# Altium footprint library OSP_Footprints.PcbLib: 50 footprints (part 3 of 4)
Each footprint in its own frame and in the unit in brackets; x right, y up, seen from the top. Pads: shape width x height; smd on the part's side, far side on the other; paste and mask are expansions set on the pad; w line width, h text height; cw(c..) or ccw(c..) is an arc to the next point about the centre after c.
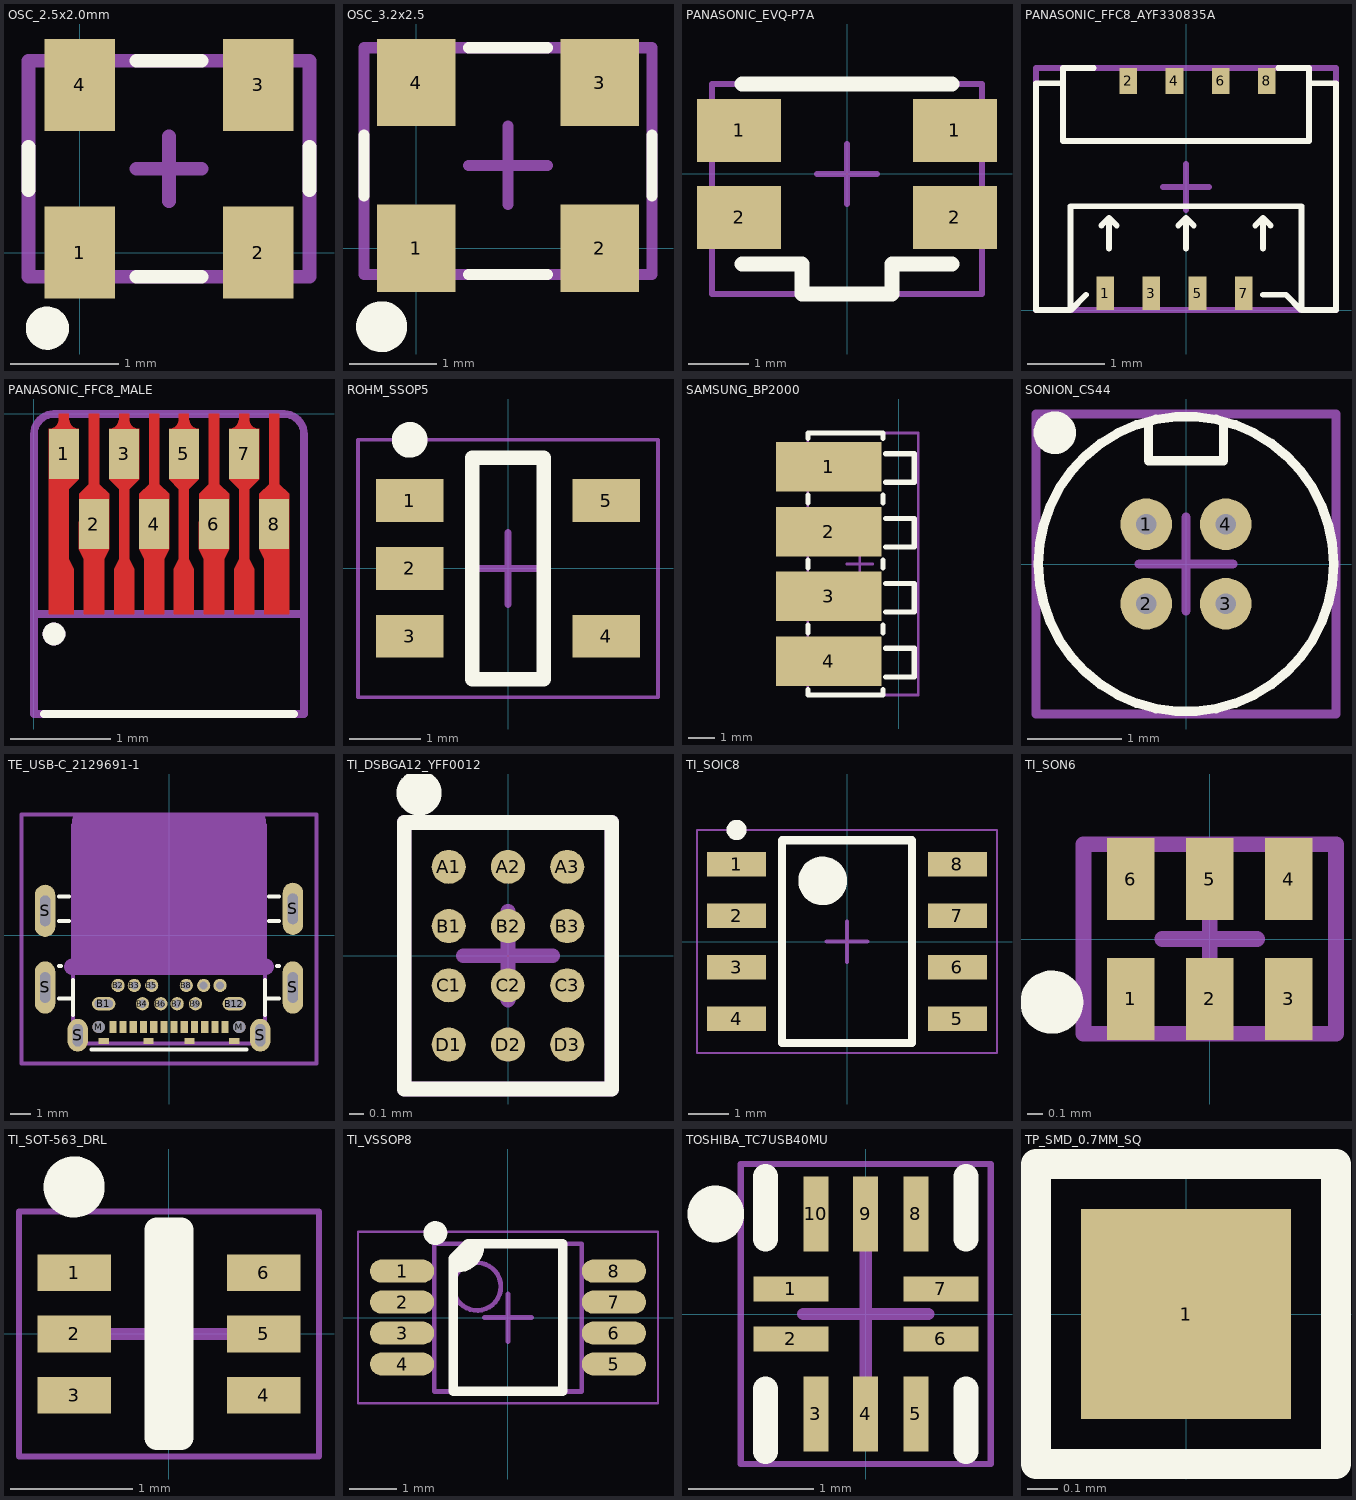
[diagram p2: the footprints below, top view; thin cyan lines are the x and y axes]

## OSC_2.5x2.0mm [mm] "SMD MEMS oscillator, 2.5x2.0 mm"
height 0.85
pads (4):
  rect 0.65x0.85 smd: 1(0,0) 2(1.65,0) 3(1.65,1.55) 4(0,1.55)
Top Overlay:
  circle w0.2: c-0.3,-0.7 r0.1
  lines w0.127: -0.475,0.575 -0.475,0.975 ; 0.525,-0.225 1.125,-0.225 ; 0.525,1.775 1.125,1.775 ; 2.125,0.575 2.125,0.975
Mechanical 15:
  lines w0.127: 0.525,0.775 1.125,0.775 ; 0.825,0.475 0.825,1.075 ; -0.475,-0.225 2.125,-0.225 2.125,1.775 -0.475,1.775 -0.475,-0.225
3D body: height 0.1, standoff 0, extent 1.325,-0.25 1.975,0.425
3D body: height 0.1, standoff 0, extent -0.325,-0.25 0.325,0.425
3D body: height 0.1, standoff 0, extent 1.325,1.125 1.975,1.8
3D body: height 0.1, standoff 0, extent -0.325,1.125 0.325,1.8
3D body: height 0.85, standoff 0.05, extent -0.475,-0.225 2.125,1.775
3D body: height 0.86, standoff 0.85, extent -0.298,0 0.1,0.4

## OSC_3.2x2.5 [mm] "MEMS oscillator, 3.2x2.5 mm"
height 0.85
pads (4):
  rect 0.9x1 smd: 1(0,0) 2(2.1,0) 3(2.1,1.9) 4(0,1.9)
Top Overlay:
  circle w0.3: c-0.4,-0.9 r0.141
  lines w0.127: -0.6,0.6 -0.6,1.3 ; 0.6,-0.3 1.5,-0.3 ; 0.6,2.3 1.5,2.3 ; 2.7,0.6 2.7,1.3
Mechanical 15:
  lines w0.127: 0.6,0.95 1.5,0.95 ; 1.05,0.5 1.05,1.4 ; -0.6,-0.3 -0.6,2.3 2.7,2.3 2.7,-0.3 -0.6,-0.3
3D body: height 0.85, standoff 0.05, extent -0.6,-0.3 2.7,2.3

## PANASONIC_EVQ-P7A [mm] "EVQ-P7A01P Tact Switch SMT Right Angle"
height 1.35
pads (4):
  rect 1.4x1.05 smd mask+0.05: 1(-1.8,0.725) 1(1.8,0.725) 2(-1.8,-0.725) 2(1.8,-0.725)
Top Overlay:
  lines w0.254: -1.75,-1.5 -0.75,-1.5 -0.75,-2 0.75,-2 0.75,-1.5 1.75,-1.5 ; -1.75,1.5 1.75,1.5
Mechanical 15:
  lines w0.1: -0.5,0 0.5,0 ; 0,-0.5 0,0.5 ; -2.25,-2 -2.25,1.5 2.25,1.5 2.25,-2 -2.25,-2
3D body: height 0.2, standoff 0, extent -2.25,0.4 2.25,1.1
3D body: height 0.2, standoff 0, extent -2.25,-1.1 2.25,-0.4
3D body: height 1.35, standoff 0.1, extent -1.75,-1.5 1.75,1.5
3D body: height 1.1, standoff 0.3, extent -0.75,-2 0.75,-1.25

## PANASONIC_FFC8_AYF330835A [mm] "Panasonic AYF330835A 8-pin FFC connector"
height 0.9
pads (8):
  rect 0.23x0.44 smd mask+0.05: 1(-1.05,0.22) 3(-0.45,0.22) 5(0.15,0.22) 7(0.75,0.22)
  rect 0.23x0.34 smd mask+0.05: 2(-0.75,2.98) 4(-0.15,2.98) 6(0.45,2.98) 8(1.05,2.98)
Top Overlay:
  lines w0.076: -1.6,2.95 -1.95,2.95 -1.95,0 -1.5,0 ; -1.3,0.2 -1.5,0 ; -1.2,3.15 -1.6,3.15 -1.6,2.2 1.6,2.2 1.6,3.15 1.2,3.15 ; -1.1,1.1 -1,1.2 ; -1,0.8 -1,1.2 ; -0.9,1.1 -1,1.2 ; -0.1,1.1 0,1.2 ; 0,0.8 0,1.2 ; 0.1,1.1 0,1.2 ; 0.9,1.1 1,1.2 ; 1,0.2 1.3,0.2 1.5,0 ; 1,0.8 1,1.2 ; 1.1,1.1 1,1.2 ; 1.6,2.95 1.95,2.95 1.95,0 1.5,0 ; -1.5,0 -1.5,1.35 1.5,1.35 1.5,0
Mechanical 15:
  lines w0.076: -0.3,1.6 0.3,1.6 ; 0,1.3 0,1.9 ; -1.95,0 1.95,0 1.95,3.15 -1.95,3.15 -1.95,0
3D body: height 0.92, standoff 0, extent -1.8,1.35 1.8,1.4
3D body: height 0.9, standoff 0, extent -1.95,0 1.95,2.95
3D body: height 0.91, standoff 0.4, extent -1.6,2.2 1.6,3.15

## PANASONIC_FFC8_MALE [mm] "Mating FFC edge to AYF330835A"
pads (8):
  rect 0.3x0.5 smd paste-1000 mask-1000: 1(0.3,-0.4) 2(0.6,-1.1) 3(0.9,-0.4) 4(1.2,-1.1) 5(1.5,-0.4) 6(1.8,-1.1) 7(2.1,-0.4) 8(2.4,-1.1)
Top Layer:
  region: 0.85,0 0.85,-0.05 0.848,-0.07 0.833,-0.106 0.806,-0.133 0.77,-0.148 0.75,-0.15 0.75,-0.65 0.85,-0.75 0.85,-1.45 0.8,-1.55 0.8,-2 1,-2 1,-1.55 0.95,-1.45 0.95,-0.75 1.05,-0.65 1.05,-0.15 1.03,-0.148 0.994,-0.133 0.967,-0.106 0.952,-0.07 0.95,-0.05 0.95,0
  region: 0.25,0 0.25,-0.05 0.248,-0.07 0.233,-0.106 0.206,-0.133 0.17,-0.148 0.15,-0.15 0.15,-2 0.4,-2 0.4,-1.55 0.35,-1.45 0.35,-0.75 0.45,-0.65 0.45,-0.15 0.43,-0.148 0.394,-0.133 0.367,-0.106 0.352,-0.07 0.35,-0.05 0.35,0
  region: 0.55,0 0.55,-0.7 0.45,-0.8 0.45,-1.35 0.5,-1.45 0.5,-2 0.7,-2 0.7,-1.45 0.75,-1.35 0.75,-0.8 0.65,-0.7 0.65,0
  region: 1.15,0 1.15,-0.7 1.05,-0.8 1.05,-1.35 1.1,-1.45 1.1,-2 1.3,-2 1.3,-1.45 1.35,-1.35 1.35,-0.8 1.25,-0.7 1.25,0
  region: 1.75,0 1.75,-0.7 1.65,-0.8 1.65,-1.35 1.7,-1.45 1.7,-2 1.9,-2 1.9,-1.45 1.95,-1.35 1.95,-0.8 1.85,-0.7 1.85,0
  region: 1.45,0 1.45,-0.05 1.448,-0.07 1.433,-0.106 1.406,-0.133 1.37,-0.148 1.35,-0.15 1.35,-0.65 1.45,-0.75 1.45,-1.45 1.4,-1.55 1.4,-2 1.6,-2 1.6,-1.55 1.55,-1.45 1.55,-0.75 1.65,-0.65 1.65,-0.15 1.63,-0.148 1.594,-0.133 1.567,-0.106 1.552,-0.07 1.55,-0.05 1.55,0
  region: 2.35,0 2.35,-0.7 2.25,-0.8 2.25,-1.35 2.3,-1.45 2.3,-2 2.55,-2 2.55,-0.8 2.45,-0.7 2.45,0
  region: 2.05,0 2.05,-0.05 2.048,-0.07 2.033,-0.106 2.006,-0.133 1.97,-0.148 1.95,-0.15 1.95,-0.65 2.05,-0.75 2.05,-1.45 2,-1.55 2,-2 2.2,-2 2.2,-1.55 2.15,-1.45 2.15,-0.75 2.25,-0.65 2.25,-0.15 2.23,-0.148 2.194,-0.133 2.167,-0.106 2.152,-0.07 2.15,-0.05 2.15,0
Top Overlay:
  circle w0.127: c0.2,-2.2 r0.05
  lines w0.076: 0.1,-3 2.6,-3
Top Solder:
  rectangle: 0,-2 2.7,0
Mechanical 15:
  circle w0.127: c0.2,-2.2 r0.05
  lines w0.076: 0,-2 0,-3 2.7,-3 2.7,-2 ; 0,-2 2.7,-2 ; 0,-2 0,-0.2 cw(c0.2,-0.2) 0.2,0 2.5,0 cw(c2.5,-0.2) 2.7,-0.2 2.7,-2
3D body: height -0.1, standoff -0.2, extent 0,-3 2.7,0

## ROHM_SSOP5 [mm] "ROHM SSOP5 from BUxxSD5 series datasheet"
height 1.25
pads (5):
  rect 0.95x0.6 smd: 1(-1.375,0.95) 2(-1.375,0) 3(-1.375,-0.95) 4(1.375,-0.95) 5(1.375,0.95)
Top Overlay:
  circle w0.25: c-1.375,1.8 r0.125
  lines w0.2: -0.5,-1.55 -0.5,1.55 0.5,1.55 0.5,-1.55 -0.5,-1.55
Mechanical 15:
  lines w0.05: -2.1,-1.8 2.1,-1.8 2.1,1.8 -2.1,1.8 -2.1,-1.8
  lines w0.1: -0.5,0 0.5,0 ; 0,-0.5 0,0.5
3D body "ROHM_SSOP5_2.step": height 1.25, standoff 0, extent -1.5,-1.55 1.5,1.55

## SAMSUNG_BP2000 [mm] "Samsung BP2000 2000mAh battery for Galaxy Camera 2, connector AVX 9155-004-201-006"
height 7
pads (4):
  rect 4.064x1.905 smd: 1(-2.7,-8) 2(-2.7,-10.5) 3(-2.7,-13) 4(-2.7,-15.5)
Top Overlay:
  lines w0.2: -3.5,-16.6 -3.5,-16.8 -0.6,-16.8 -0.6,-16.6 ; -3.5,-14.4 -3.5,-14.1 ; -3.5,-11.9 -3.5,-11.6 ; -3.5,-9.4 -3.5,-9.1 ; -3.5,-6.9 -3.5,-6.7 -0.6,-6.7 -0.6,-6.9 ; -0.6,-14.4 -0.6,-14.1 ; -0.6,-11.9 -0.6,-11.6 ; -0.6,-9.4 -0.6,-9.1 ; -0.5,-16.1 0.6,-16.1 0.6,-15 -0.5,-15 ; -0.5,-13.6 0.6,-13.6 0.6,-12.5 -0.5,-12.5 ; -0.5,-11.1 0.6,-11.1 0.6,-10 -0.5,-10 ; -0.5,-8.6 0.6,-8.6 0.6,-7.5 -0.5,-7.5
Mechanical 15:
  lines w0.1: -2,-11.75 -1,-11.75 ; -1.5,-12.25 -1.5,-11.25 ; -3.5,-16.8 -3.5,-6.7 0.75,-6.7 0.75,-16.8 -3.5,-16.8
3D body "AVX Interconnect-00-9155-004-201-006.STEP": height 5.38, standoff -0.02, extent -3.249,-16.8 0.7,-6.8
3D body "SAMSUNG BP2000.STEP": height 8.97, standoff 2.46, extent 0,-46.3 59,0

## SONION_CS44 [mm]
height 2.2
pads (4):
  round 0.55 hole 0.22: 1(-0.424,0.424) 2(-0.424,-0.424) 3(0.424,-0.424) 4(0.424,0.424)
Top Overlay:
  circle w0.1: c0,0 r1.575
  circle w0.254: c-1.4,1.4 r0.1
  lines w0.1: -0.4,1.5 -0.4,1.1 0.4,1.1 0.4,1.5
Mechanical 15:
  lines w0.1: -0.5,0 0.5,0 ; 0,-0.5 0,0.5 ; -1.6,-1.6 -1.6,1.6 1.6,1.6 1.6,-1.6 -1.6,-1.6
3D body: height 2.2, standoff 0, extent -1.563,-1.572 1.575,1.572

## TE_USB-C_2129691-1 [mm] "USB-C Hybrid In-Board Mount"
height 2.27
pads (36):
  rect 0.35x0.6 smd: A1(2.75,-4.5) A2(2.25,-4.5) A3(1.75,-4.5) A4(1.25,-4.5) A5(0.75,-4.5) A6(0.25,-4.5) A7(-0.25,-4.5) A8(-0.75,-4.5) A9(-1.25,-4.5) A10(-1.75,-4.5) A11(-2.25,-4.5) A12(-2.75,-4.5)
  oval 1.15x0.65 hole 0.4 slot 0.9 at 0 deg: B1(-3.2,-3.36) B12(3.2,-3.36)
  round 0.65 hole 0.4: B2(-2.5,-2.46) B3(-1.7,-2.46) B4(-1.3,-3.36) B5(-0.85,-2.46) B6(-0.4,-3.36) B7(0.4,-3.36) B8(0.85,-2.46) B9(1.3,-3.36) B10(1.7,-2.46) B11(2.5,-2.46)
  round 0.6 hole 0.6 unplated mask+0.102: M(-3.45,-4.5) M(3.45,-4.5)
  oval 1x2.56 hole 0.5 slot 1.5 at 90 deg: S(-6.075,-2.56) S(-6.075,1.2) S(6.075,-2.56) S(6.075,1.3)
  oval 1x1.6 hole 0.5 slot 1.1 at 90 deg: S(-4.475,-4.9) S(4.475,-4.9)
  rect 0.5x0.3 smd: S(-3.2,-5.19) S(-1,-5.19) S(1,-5.19) S(3.2,-5.19)
Top Overlay:
  lines w0.2: -5.4,-3.1 -4.7,-3.1 ; -5.4,-1.5 -5.3,-1.5 ; -5.4,0.7 -4.9,0.7 ; -5.4,1.9 -4.9,1.9 ; -4.7,-3.9 -4.7,-2.2 ; -3.8,-5.6 0,-5.6 3.8,-5.6 ; 4.7,-3.9 4.7,-2.2 ; 4.7,-3.1 5.4,-3.1 ; 4.9,0.7 5.4,0.7 ; 4.9,1.9 5.4,1.9 ; 5.3,-1.5 5.4,-1.5
Top Solder:
  rectangle: -1.2,-3.7 1.2,-3
  rectangle: 1,-2.8 2.3,-2.1
  rectangle: -2.3,-2.8 -1,-2.1
  rectangle: 2.8,-5 4.2,-4.1
  rectangle: 0.625,-5 1.375,-4.8
  rectangle: -1.375,-5 -0.625,-4.8
  rectangle: -4.2,-5 -2.8,-4.1
Bottom Solder:
  rectangle: 1,-2.8 2.3,-2.1
  rectangle: -1.1,-3.7 1.1,-3
  rectangle: -2.3,-2.8 -1,-2.1
  rectangle: -4.2,-4.9 -3.5,-4.1
  rectangle: 3.5,-4.9 4.2,-4.1
Mechanical 1:
  lines w0.2: -4.7,-5.3 0,-5.3 4.7,-5.3 4.7,5.4 0,5.4 -4.7,5.4 -4.7,-5.3
Mechanical 15:
  lines w0.2: -0.635,0 0.635,0 ; 0,-0.635 0,0.635 ; -7.239,-6.278 0,-6.278 7.239,-6.278 7.239,5.914 0,5.914 -7.239,5.914 -7.239,-6.278
Mechanical 31:
  region: 4.35,5.61 -4.35,5.61 -4.35,-1.54 4.35,-1.54
  lines w0.8: -4.75,-1.54 4.75,-1.54 ; -4.35,-1.54 -4.35,5.61 0,5.61 4.35,5.61 4.35,-1.54
3D body "TE USB 2129691-1.STEP": height 2.27, standoff -1.07, extent -6.175,-5.3 6.175,5.4

## TI_DSBGA12_YFF0012 [mm] "TI 12-pin BGA YFF0012 from TPD4S214"
height 0.625
pads (12):
  round 0.23 smd mask+0.102: A1(-0.4,0.6) A2(0,0.6) A3(0.4,0.6) B1(-0.4,0.2) B2(0,0.2) B3(0.4,0.2) C1(-0.4,-0.2) C2(0,-0.2) C3(0.4,-0.2) D1(-0.4,-0.6) D2(0,-0.6) D3(0.4,-0.6)
Top Overlay:
  circle w0.254: c-0.6,1.1 r0.025
  lines w0.1: -0.7,-0.9 -0.7,0.9 0.7,0.9 0.7,-0.9 -0.7,-0.9
Top Solder:
  rectangle: -0.4,-0.6 0.4,0.6
Mechanical 15:
  lines w0.1: -0.3,0 0.3,0 ; 0,-0.3 0,0.3 ; -0.7,-0.9 0.7,-0.9 0.7,0.9 -0.7,0.9 -0.7,-0.9
3D body: height 0.63, standoff 0.15, extent -0.7,-0.9 0.7,0.9

## TI_SOIC8 [mm] "SOIC, 8-Leads, Body 4.90x3.90mm, Pitch 1.27mm, IPC Medium Density"
height 1.75
pads (8):
  rect 1.45x0.6 smd: 1(-2.725,1.905) 2(-2.725,0.635) 3(-2.725,-0.635) 4(-2.725,-1.905) 5(2.725,-1.905) 6(2.725,-0.635) 7(2.725,0.635) 8(2.725,1.905)
Top Overlay:
  circle w0.6: c-0.6,1.5 r0.3
  circle w0.25: c-2.725,2.755 r0.125
  lines w0.2: -1.6,-2.5 1.6,-2.5 1.6,2.5 -1.6,2.5 -1.6,-2.5
Mechanical 15:
  lines w0.05: -3.7,-2.75 3.7,-2.75 3.7,2.75 -3.7,2.75 -3.7,-2.75
  lines w0.1: -0.5,0 0.5,0 ; 0,-0.5 0,0.5
3D body "TI_SOIC8.step": height 1.75, standoff 0, extent -3,-2.5 3,2.5

## TI_SON6 [mm] "Small Outline No-Lead, 6 pin"
height 0.6
pads (6):
  rect 0.3x0.52 smd: 1(-0.5,-0.38) 2(0,-0.38) 3(0.5,-0.38) 4(0.5,0.38) 5(0,0.38) 6(-0.5,0.38)
Top Overlay:
  circle w0.2: c-1,-0.4 r0.1
Top Solder:
  rectangle: -0.775,-0.15 0.775,0.15
Mechanical 15:
  lines w0.1: -0.3,0 0.3,0 ; 0,-0.3 0,0.3 ; -0.8,-0.6 -0.8,0.6 0.8,0.6 0.8,-0.6 -0.8,-0.6
3D body: height 0.6, standoff 0.05, extent -0.75,-0.525 0.75,0.525

## TI_SOT-563_DRL [mm] "SOTFL, 6-Leads, Body 1.60x1.60mm, Pitch 0.50mm, IPC Medium Density"
height 0.6
pads (6):
  rect 0.6x0.3 smd: 1(-0.775,0.5) 2(-0.775,0) 3(-0.775,-0.5) 4(0.775,-0.5) 5(0.775,0) 6(0.775,0.5)
Top Overlay:
  circle w0.25: c-0.775,1.2 r0.125
  lines w0.2: -0.1,-0.85 -0.1,0.85 0.1,0.85 0.1,-0.85 -0.1,-0.85
Mechanical 15:
  lines w0.05: -1.225,-1 1.225,-1 1.225,1 -1.225,1 -1.225,-1
  lines w0.1: -0.5,0 0.5,0 ; 0,-0.5 0,0.5
3D body: height 0.6, standoff 0, extent -0.65,-0.85 0.65,0.85

## TI_VSSOP8 [mm] "TSOP, 8-Leads, Body 3.00x3.00mm, Pitch 0.65mm, IPC Medium Density"
height 1.1
pads (8):
  oval 1.35x0.485 smd: 1(-2.225,0.975) 2(-2.225,0.325) 3(-2.225,-0.325) 4(-2.225,-0.975) 5(2.225,-0.975) 6(2.225,-0.325) 7(2.225,0.325) 8(2.225,0.975)
Top Overlay:
  circle w0.25: c-1.525,1.775 r0.125
  region: -1,1.4 -0.6,1.5 -0.6,1.35 -0.9,1.05 -1.1,1.05
  lines w0.2: -1.1,1.05 -1.05,1.05 ccw(c-1.05,1.5) -0.6,1.5 ; -1.15,-1.55 1.15,-1.55 1.15,1.55 -0.85,1.55 -1.15,1.25 -1.15,-1.55
Mechanical 13:
  circle w0.1: c-0.65,0.65 r0.5
  lines w0.1: -1.55,-1.55 -1.55,1.55 1.55,1.55 1.55,-1.55 -1.55,-1.55
Mechanical 15:
  lines w0.05: -3.15,-1.8 -3.15,1.8 3.15,1.8 3.15,-1.8 -3.15,-1.8
  lines w0.1: -0.5,0 0.5,0 ; 0,-0.5 0,0.5
3D body "TI VSSOP-8 DGK.STEP": height 1.1, standoff 0, extent -2.45,-1.5 2.45,1.5

## TOSHIBA_TC7USB40MU [mm] "SPDT USB switch"
height 0.5
pads (10):
  rect 0.6x0.2 smd: 1(-0.6,0.2) 2(-0.6,-0.2) 6(0.6,-0.2) 7(0.6,0.2)
  rect 0.2x0.6 smd: 3(-0.4,-0.8) 4(0,-0.8) 5(0.4,-0.8) 8(0.4,0.8) 9(0,0.8) 10(-0.4,0.8)
Top Overlay:
  circle w0.254: c-1.2,0.8 r0.1
  lines w0.2: -0.8,-1.1 -0.8,-0.6 ; -0.8,0.6 -0.8,1.1 ; 0.8,-1.1 0.8,-0.6 ; 0.8,0.6 0.8,1.1
Mechanical 15:
  lines w0.05: -1,-1.2 -1,1.2 1,1.2 1,-1.2 -1,-1.2
  lines w0.1: -0.5,0 0.5,0 ; 0,-0.5 0,0.5
3D body "QFN40P140X180X55-10N.step": height 0.55, standoff 0, extent -0.725,-0.925 0.725,0.925

## TP_SMD_0.7MM_SQ [mm] "0.7mm square SMD test point"
pads (1):
  rect 0.7x0.7 smd: 1(0,0)
Top Overlay:
  lines w0.102: -0.5,-0.5 -0.5,0.5 0.5,0.5 0.5,-0.5 -0.5,-0.5